# Altium footprint library NTC.PcbLib: 1 footprints
Each footprint in its own frame and in the unit in brackets; x right, y up, seen from the top. Pads: shape width x height; smd on the part's side, far side on the other; paste and mask are expansions set on the pad; w line width, h text height; cw(c..) or ccw(c..) is an arc to the next point about the centre after c.
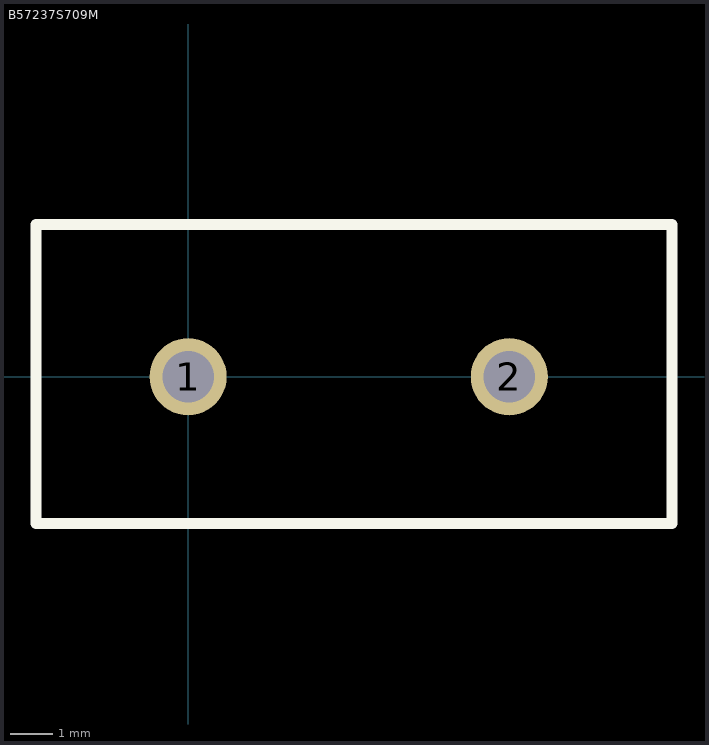
[diagram p0: the footprint, top view; thin cyan lines are the x and y axes]

## B57237S709M [mm] "Thermistor, ICL NTC, 7 ohm"
pads (2):
  round 1.8 hole 1.2: 1(0,0) 2(7.5,0)
Top Overlay:
  lines w0.254: -3.556,-3.429 -3.556,3.556 11.303,3.556 11.303,-3.429 -3.556,-3.429